# EAGLE library part WE-DS_210612043 (library wurth_elektronik_passive_rev16d)
WE-DS D-SUB-Filter Connectors Bent 90° Characteristics Standard type filtered with 1000 pF High attenuation of more than 40 dB @ 180 MHz Choice of earthing metal sheet or high speed earthing clip Rated voltage: 100 VDC Rated current @ 20 ºC: 5 A Withstand voltage: 250 VRMS Insulation resistance: min. 1000 MΩ Operating temperature: –55 ºC to +125 ºC Applications Filtering of interfaces External connection to -printer -sensor -display <http://katalog.we-online.de/media/thumbs2/eisos/thb_AbsDSubFilter_abgewinkelt_pf2.jpg> Details see: http://katalog.we-online.de/en/pbs/Filter_abgewinkelt Created on 2015-05-04 2015 (C) Wurth Elektronik
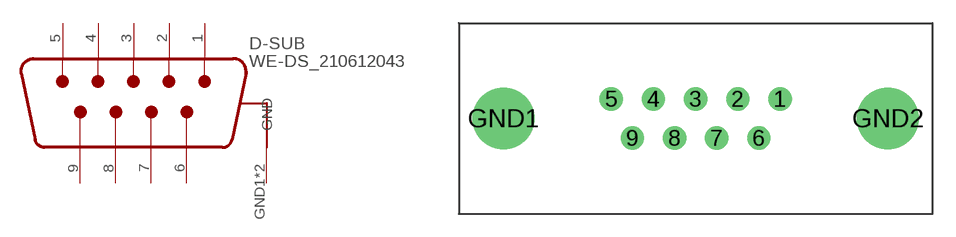
[diagram p191: symbol with the pads of WE-DS_2106120X3; footprint WE-DS_2106120X3]

Designator prefix D-SUB

## WE-DS_210612043  [WE-DS_2106120X3]
1  5
2  4
3  3
4  2
5  1
6  9
7  8
8  7
9  6
GND1  GND
GND2  GND

## Footprint WE-DS_2106120X3 (pad centres in mm)
drill 1: 1 5.49,1.27; 2 2.74,1.27; 3 0,1.27; 4 -2.74,1.27; 5 -5.49,1.27; 6 4.11,-1.27; 7 1.37,-1.27; 8 -1.37,-1.27; 9 -4.11,-1.27
drill 3: GND1 -12.5,0; GND2 12.5,0